# EAGLE library part L5972D (library electronic-labs)
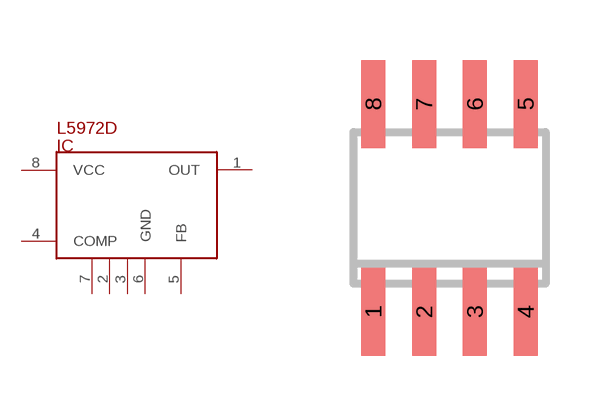
[diagram p3: symbol with the pads of SO-08; footprint SO-08]

Designator prefix IC

## L5972DSO8  [SO-08]
1  OUT  pwr
2  GND  pwr
3  GND  pwr
4  COMP
5  FB
6  GND  pwr
7  GND  pwr
8  VCC  pwr

## Footprint SO-08 (pad centres in mm)
Small Outline Narrow Plastic Gull Wing 150-mil body, package type SN
smd 0.6 x 2.2: 1 -1.905,-2.6; 2 -0.635,-2.6; 3 0.635,-2.6; 4 1.905,-2.6; 5 1.905,2.6; 6 0.635,2.6; 7 -0.635,2.6; 8 -1.905,2.6